# EAGLE library part TDA8552T/S (library Audio-Power-amplifier)
2 ´ 1.4 W BTL audio amplifiers with digital volume control and headphone sensing
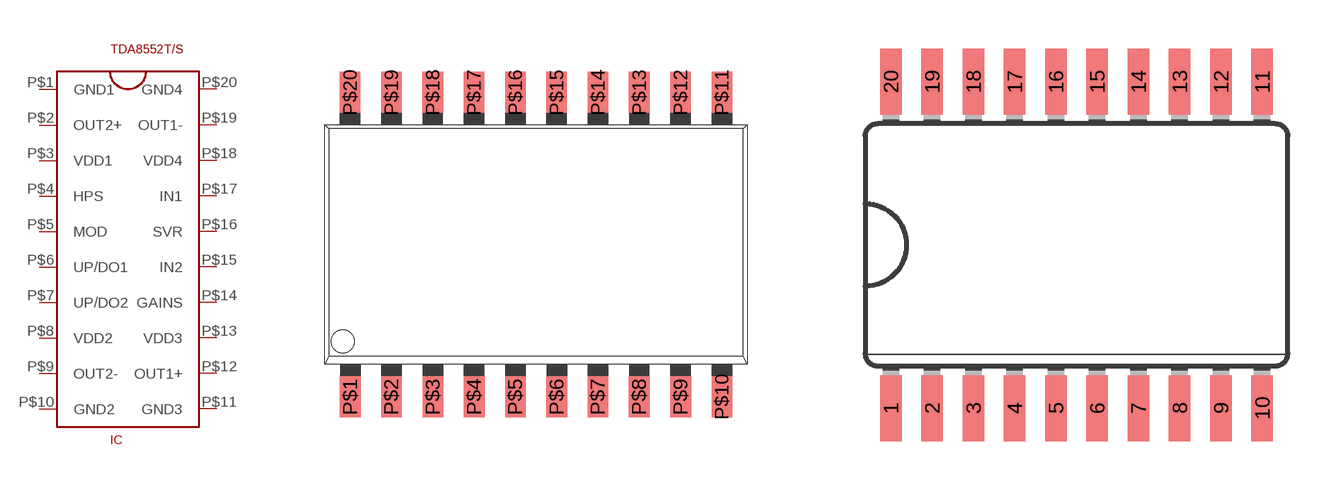
[diagram p34: symbol with the pads of SOT163-1; footprints SOT163-1, SOT266-1]

Designator prefix IC

## TDA8552T/S  [SOT163-1]
P$1  GND1  pwr
P$2  OUT2+  out
P$3  VDD1  pwr
P$4  HPS
P$5  MOD
P$6  UP/DO1
P$7  UP/DO2
P$8  VDD2  pwr
P$9  OUT2-  out
P$10  GND2  pwr
P$11  GND3  pwr
P$12  OUT1+  out
P$13  VDD3  pwr
P$14  GAINS
P$15  IN2  in
P$16  SVR
P$17  IN1  in
P$18  VDD4  pwr
P$19  OUT1-  out
P$20  GND4  pwr

## TDA8552T/SSOT266-1  [SOT266-1]
1  GND1  pwr
2  OUT2+  out
3  VDD1  pwr
4  HPS
5  MOD
6  UP/DO1
7  UP/DO2
8  VDD2  pwr
9  OUT2-  out
10  GND2  pwr
11  GND3  pwr
12  OUT1+  out
13  VDD3  pwr
14  GAINS
15  IN2  in
16  SVR
17  IN1  in
18  VDD4  pwr
19  OUT1-  out
20  GND4  pwr

## Footprint SOT163-1 (pad centres in mm)
smd 0.635 x 1.27: P$1 -5.71,-4.685; P$2 -4.445,-4.685; P$3 -3.17,-4.685; P$4 -1.9,-4.685; P$5 -0.635,-4.685; P$6 0.64,-4.685; P$7 1.905,-4.685; P$8 3.175,-4.685; P$9 4.45,-4.685; P$10 5.715,-4.685; P$11 5.715,4.685; P$12 4.445,4.685; P$13 3.175,4.685; P$14 1.905,4.685; P$15 0.635,4.685; P$16 -0.635,4.685; P$17 -1.905,4.685; P$18 -3.175,4.685; P$19 -4.445,4.685; P$20 -5.715,4.685

## Footprint SOT266-1 (pad centres in mm)
Small Outline Package
smd 0.66 x 2.032: 1 -5.715,-5.029; 2 -4.445,-5.029; 3 -3.175,-5.029; 4 -1.905,-5.029; 5 -0.635,-5.029; 6 0.635,-5.029; 7 1.905,-5.029; 8 3.175,-5.029; 9 4.445,-5.029; 10 5.715,-5.029; 11 5.715,5.029; 12 4.445,5.029; 13 3.175,5.029; 14 1.905,5.029; 15 0.635,5.029; 16 -0.635,5.029; 17 -1.905,5.029; 18 -3.175,5.029; 19 -4.445,5.029; 20 -5.715,5.029